# Altium schematic symbol library MPF102.SchLib: 1 symbol
Pins are listed as number, name and electrical type; pins without a type are passive.

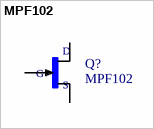
[diagram p0: symbol MPF102]

## MPF102
designator Q?
MF: Freescale Semiconductor; MP: MPF102; Package: None; Availability: Unavailable; Price: None; SnapEDA_Link: https://www.snapeda.com/parts/MPF102/Freescale%20Semiconductor/view-part/?ref=snap; Value: *
footprint TO92F
pins: 1 D, 2 S, 3 G